# Altium integrated library Pots.IntLib: 1 symbol
Pins are listed as number, name and electrical type; pins without a type are passive.

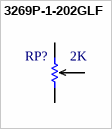
[diagram p0: symbol 3269P-1-202GLF]

## 3269P-1-202GLF
designator RP?, comment 2K
TRIMMER 2K OHM 0.25W SMD; Manufacturer: Bourns Inc.; Manufacturer Part Number: 3269P-1-202GLF; Power (Watts): 0.25W, 1/4W; Tolerance: ±10%; Temperature Coefficient: ±100ppm/°C; Number of Turns: 12; Adjustment Type: Side Adjustment; Resistive Material: Cermet; Supplier 1: Digi-Key; RoHS: RoHS Compliant; Category: Potentiometers, Variable Resistors; Stock 1: 1473; Pricing 1: 1=4.87, 10=4.451, 25=3.972, 50=3.7248, 100=3.4003, 250=2.75116 (USD); Packaging: Digi-Reel®; Resistance (Ohms): 2k; Mounting Type: Surface Mount; Termination Style: Gull Wing; Size / Dimension: Square - 0.250" L x 0.250" W x 0.205" H (6.35mm x 6.35mm x 5.21mm); ComponentLink1URL: http://www.bourns.com/data/global/pdfs/3269.pdf; ComponentLink1Description: http://www.bourns.com/data/global/pdfs/3269.pdf; Supplier Part Number 1: 3269P-1-202GLFDKR-ND
footprint 3269P-Pot
pins: 1, 2, 3